# Altium integrated library EXB-38V330GV.IntLib: 1 symbol
Pins are listed as number, name and electrical type; pins without a type are passive.

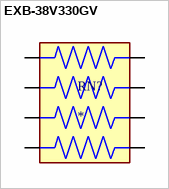
[diagram p0: symbol EXB-38V330GV]

## EXB-38V330GV
designator RN?
Resistor Array, Chip, 4 elements CONVEX 1206 2%; MF: Panasonic; MP: EXB-38V330GV; SnapEDA_Link: https://www.snapeda.com/parts/EXB-38V330GV/Panasonic/view-part/1421932/?ref=snap; Price: None; Package: 0603 Panasonic; Value: *; Check_prices: https://www.snapeda.com/parts/EXB-38V330GV/Panasonic/view-part/1421932/?ref=eda; Availability: Bad
footprint RESCAXS80P320X160X60-8N
pins: 1, 2, 3, 4, 5, 6, 7, 8